# Altium footprint library jumper.PCBLIB: 66 footprints (part 1 of 5)
Each footprint in its own frame and in the unit in brackets; x right, y up, seen from the top. Pads: shape width x height; smd on the part's side, far side on the other; paste and mask are expansions set on the pad; w line width, h text height; cw(c..) or ccw(c..) is an arc to the next point about the centre after c.
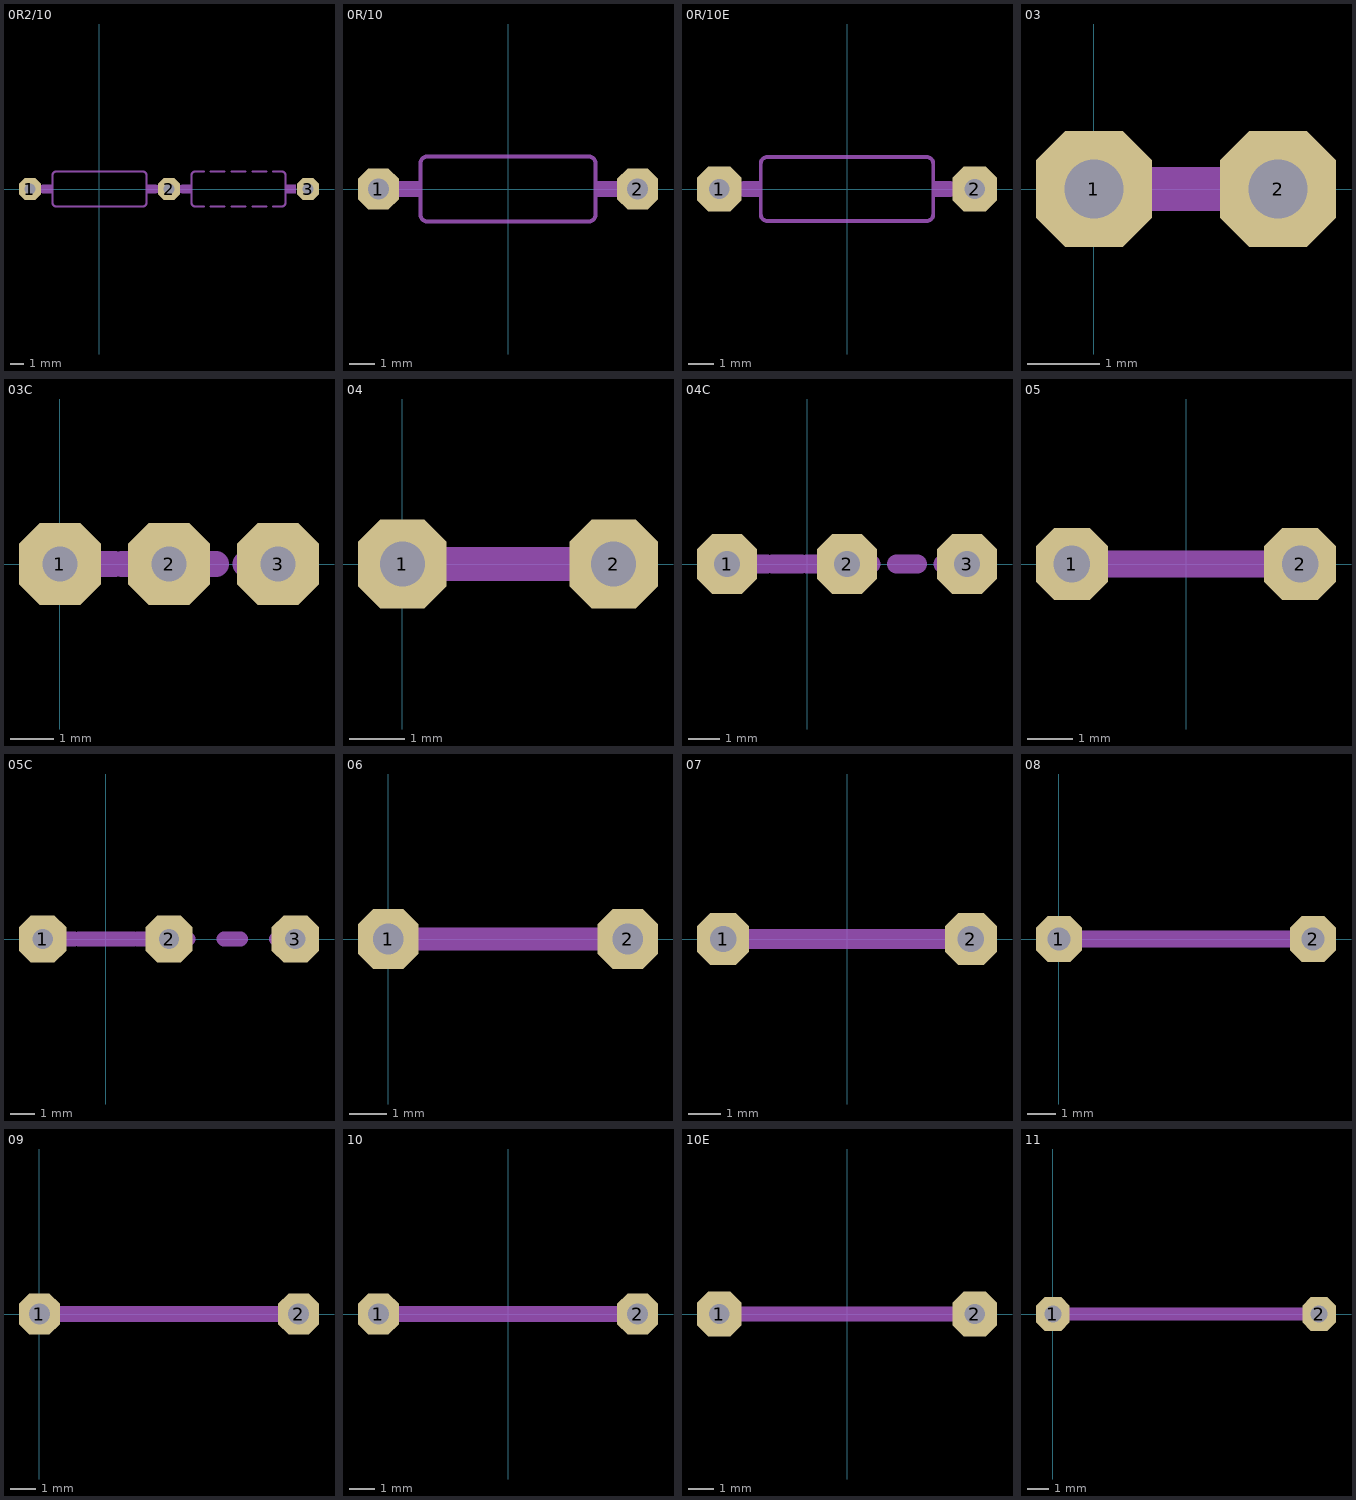
[diagram p0: the footprints below, top view; thin cyan lines are the x and y axes]

## 0R2/10 [mil]
pads (3):
  oct 63x63 / inner round 58.2 / far side oct 63x63 hole 32: 1(-200,0) 2(200,0) 3(600,0)
Mechanical 3:
  lines w6: 570,0 600,0
  lines w24: -200,0 -165,0 ; 165,0 235,0
Mechanical 7:
  region: -164,-12 -164,12 -135,12 -135,-12
  region: 135,-12 135,12 164,12 164,-12
  region: 236,-12 236,12 265,12 265,-12
  region: 535,-12 535,12 564,12 564,-12
  lines w6: 300,-50 275,-50 cw(c275,-40) 265,-40 265,40 cw(c275,40) 275,50 300,50 ; 320,-50 360,-50 ; 320,50 360,50 ; 380,-50 420,-50 ; 380,50 420,50 ; 440,-50 480,-50 ; 440,50 480,50 ; 500,-50 525,-50 ccw(c525,-40) 535,-40 535,40 ccw(c525,40) 525,50 500,50 ; -135,-40 ccw(c-125,-40) -125,-50 125,-50 ccw(c125,-40) 135,-40 135,40 ccw(c125,40) 125,50 -125,50 ccw(c-125,40) -135,40 -135,-40
  text "0Ã›" at -45,-25 h77.5
  text "0Ã›" at 355,-25 h77.5

## 0R/10 [mil]
pads (2):
  oct 63x63 / inner round 58.2 / far side oct 63x63 hole 32: 1(-200,0) 2(200,0)
Mechanical 3:
  lines w24: -200,0 -165,0 ; 165,0 200,0
Mechanical 7:
  region: 135,-12 135,12 162,12 162,-12
  region: -162,-12 -162,12 -135,12 -135,-12
  lines w6: -135,-40 ccw(c-125,-40) -125,-50 125,-50 ccw(c125,-40) 135,-40 135,40 ccw(c125,40) 125,50 -125,50 ccw(c-125,40) -135,40 -135,-40
  text "0Ã›" at -45,-25 h77.5

## 0R/10E [mil]
pads (2):
  oct 70x70 / inner round 64.67 / far side oct 70x70 hole 32: 1(-200,0) 2(200,0)
Mechanical 3:
  lines w24: -200,0 -165,0 ; 165,0 200,0
Mechanical 7:
  region: 135,-12 135,12 163,12 163,-12
  region: -163,-12 -163,12 -135,12 -135,-12
  lines w6: -135,-40 ccw(c-125,-40) -125,-50 125,-50 ccw(c125,-40) 135,-40 135,40 ccw(c125,40) 125,50 -125,50 ccw(c-125,40) -135,40 -135,-40
  text "0Ã›" at -45,-25 h77.5

## 03 [mil]
pads (2):
  oct 63x63 / inner round 58.2 / far side oct 63x63 hole 32: 1(0,0) 2(100,0)
Mechanical 3:
  lines w24: 0,0 100,0

## 03C [mil]
pads (3):
  oct 75x75 / inner round 69.29 / far side oct 75x75 hole 32: 1(0,0) 2(100,0) 3(200,0)
Mechanical 3:
  lines w24: 0,0 50,0 ; 170,0 200,0
Mechanical 7:
  lines w24: 57,0 143,0 ; 87,0 113,0

## 04 [mil]
pads (2):
  oct 63x63 / inner round 58.2 / far side oct 63x63 hole 32: 1(0,0) 2(150,0)
Mechanical 3:
  lines w24: 0,0 150,0

## 04C [mil]
pads (3):
  oct 75x75 / inner round 69.29 / far side oct 75x75 hole 32: 1(-100,0) 2(50,0) 3(200,0)
Mechanical 3:
  lines w24: -100,0 -50,0 ; 0,0 50,0 ; 55,0 80,0 ; 170,0 200,0
Mechanical 7:
  lines w24: -43,0 -7,0 ; 112,0 138,0

## 05 [mil]
pads (2):
  oct 63x63 / inner round 58.2 / far side oct 63x63 hole 32: 1(-100,0) 2(100,0)
Mechanical 3:
  lines w24: -100,0 -55,0 ; 55,0 100,0
Mechanical 7:
  lines w24: -53,0 53,0

## 05C [mil]
pads (3):
  oct 75x75 / inner round 69.29 / far side oct 75x75 hole 32: 1(-100,0) 2(100,0) 3(300,0)
Mechanical 3:
  lines w24: -100,0 -50,0 ; 50,0 100,0 ; 105,0 130,0 ; 270,0 300,0
Mechanical 7:
  lines w24: -43,0 43,0 ; 187,0 213,0

## 06 [mil]
pads (2):
  oct 63x63 / inner round 58.2 / far side oct 63x63 hole 32: 1(0,0) 2(250,0)
Mechanical 3:
  lines w24: 0,0 45,0 ; 205,0 250,0
Mechanical 7:
  lines w24: 47,0 203,0

## 07 [mil]
pads (2):
  oct 63x63 / inner round 58.2 / far side oct 63x63 hole 32: 1(-150,0) 2(150,0)
Mechanical 3:
  lines w24: -150,0 -100,0 ; 100,0 150,0
Mechanical 7:
  lines w24: -103,0 103,0

## 08 [mil]
pads (2):
  oct 63x63 / inner round 58.2 / far side oct 63x63 hole 32: 1(0,0) 2(350,0)
Mechanical 3:
  lines w24: 0,0 195,0 ; 305,0 350,0
Mechanical 7:
  lines w24: 197,0 303,0

## 09 [mil]
pads (2):
  oct 63x63 / inner round 58.2 / far side oct 63x63 hole 32: 1(0,0) 2(400,0)
Mechanical 3:
  lines w24: 0,0 245,0 ; 355,0 400,0
Mechanical 7:
  lines w24: 247,0 353,0

## 10 [mil]
pads (2):
  oct 63x63 / inner round 58.2 / far side oct 63x63 hole 32: 1(-200,0) 2(200,0)
Mechanical 3:
  lines w24: -200,0 -155,0 ; 155,0 200,0
Mechanical 7:
  lines w24: -153,0 153,0

## 10E [mil]
pads (2):
  oct 70x70 / inner round 64.67 / far side oct 70x70 hole 32: 1(-200,0) 2(200,0)
Mechanical 3:
  lines w24: -200,0 -150,0 ; 150,0 200,0
Mechanical 7:
  lines w24: -150,0 150,0

## 11 [mil]
pads (2):
  oct 63x63 / inner round 58.2 / far side oct 63x63 hole 32: 1(0,0) 2(500,0)
Mechanical 3:
  lines w24: 0,0 345,0 ; 455,0 500,0
Mechanical 7:
  lines w24: 347,0 453,0